# Altium schematic symbol library MAX17055EWL+T.SchLib: 1 symbol
Pins are listed as number, name and electrical type; pins without a type are passive.

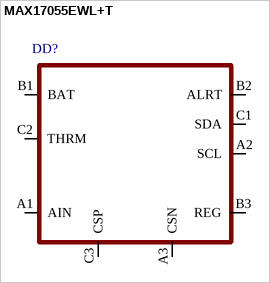
[diagram p0: symbol MAX17055EWL+T]

## MAX17055EWL+T
designator DD?
pins: A1 AIN, A2 SCL, A3 CSN, B1 BAT, B2 ALRT, B3 REG, C1 SDA, C2 THRM, C3 CSP